# EAGLE library part MC60 (library 1zac)
Quectel MC60: Dual Sim+ GNSS + Bluetooth
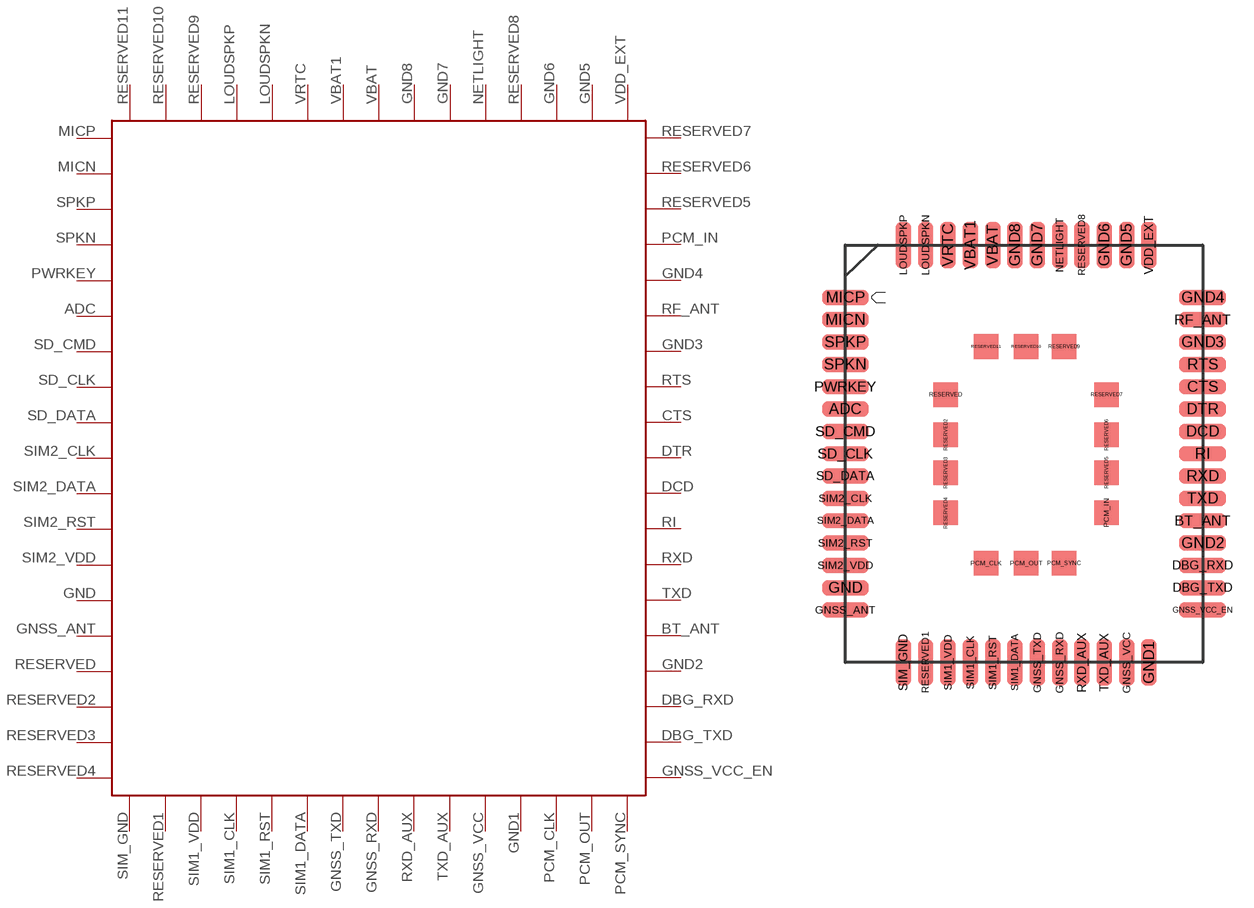
[diagram p7: symbol with the pads of MC60; footprint MC60]

Designator prefix -

## MC60 (MPN: Quectel MC60)  [MC60]
ADC  ADC
BT_ANT  BT_ANT
CTS  CTS
DBG_RXD  DBG_RXD
DBG_TXD  DBG_TXD
DCD  DCD
DTR  DTR
GND  GND
GND1  GND1
GND2  GND2
GND3  GND3
GND4  GND4
GND5  GND5
GND6  GND6
GND7  GND7
GND8  GND8
GNSS_ANT  GNSS_ANT
GNSS_RXD  GNSS_RXD
GNSS_TXD  GNSS_TXD
GNSS_VCC  GNSS_VCC
GNSS_VCC_EN  GNSS_VCC_EN
LOUDSPKN  LOUDSPKN
LOUDSPKP  LOUDSPKP
MICN  MICN
MICP  MICP
NETLIGHT  NETLIGHT
PCM_CLK  PCM_CLK
PCM_IN  PCM_IN
PCM_OUT  PCM_OUT
PCM_SYNC  PCM_SYNC
PWRKEY  PWRKEY
RESERVED  RESERVED
RESERVED1  RESERVED1
RESERVED2  RESERVED2
RESERVED3  RESERVED3
RESERVED4  RESERVED4
RESERVED5  RESERVED5
RESERVED6  RESERVED6
RESERVED7  RESERVED7
RESERVED8  RESERVED8
RESERVED9  RESERVED9
RESERVED10  RESERVED10
RESERVED11  RESERVED11
RF_ANT  RF_ANT
RI  RI
RTS  RTS
RXD  RXD
RXD_AUX  RXD_AUX
SD_CLK  SD_CLK
SD_CMD  SD_CMD
SD_DATA  SD_DATA
SIM1_CLK  SIM1_CLK
SIM1_DATA  SIM1_DATA
SIM1_RST  SIM1_RST
SIM1_VDD  SIM1_VDD
SIM2_CLK  SIM2_CLK
SIM2_DATA  SIM2_DATA
SIM2_RST  SIM2_RST
SIM2_VDD  SIM2_VDD
SIM_GND  SIM_GND
SPKN  SPKN
SPKP  SPKP
TXD  TXD
TXD_AUX  TXD_AUX
VBAT  VBAT
VBAT1  VBAT1
VDD_EXT  VDD_EXT
VRTC  VRTC

## Footprint MC60 (pad centres in mm)
smd 2.1 x 0.7: ADC -8,2.05; BT_ANT 8,-2.95; CTS 8,3.05; DBG_RXD 8,-4.95; DBG_TXD 8,-5.95; DCD 8,1.05; DTR 8,2.05; GND -8,-5.95; GND2 8,-3.95; GND3 8,5.05; GND4 8,7.05; GNSS_ANT -8,-6.95; GNSS_VCC_EN 8,-6.95; MICN -8,6.05; MICP -8,7.05; PWRKEY -8,3.05; RF_ANT 8,6.05; RI 8,0.05; RTS 8,4.05; RXD 8,-0.95; SD_CLK -8,0.05; SD_CMD -8,1.05; SD_DATA -8,-0.95; SIM2_CLK -8,-1.95; SIM2_DATA -8,-2.95; SIM2_RST -8,-3.95; SIM2_VDD -8,-4.95; SPKN -8,4.05; SPKP -8,5.05; TXD 8,-1.95
smd 0.7 x 2.1: GND1 5.6,-9.3; GND5 4.6,9.4; GND6 3.6,9.4; GND7 0.6,9.4; GND8 -0.4,9.4; GNSS_RXD 1.6,-9.3; GNSS_TXD 0.6,-9.3; GNSS_VCC 4.6,-9.3; LOUDSPKN -4.4,9.4; LOUDSPKP -5.4,9.4; NETLIGHT 1.6,9.4; RESERVED1 -4.4,-9.3; RESERVED8 2.6,9.4; RXD_AUX 2.6,-9.3; SIM1_CLK -2.4,-9.3; SIM1_DATA -0.4,-9.3; SIM1_RST -1.4,-9.3; SIM1_VDD -3.4,-9.3; SIM_GND -5.4,-9.3; TXD_AUX 3.6,-9.3; VBAT -1.4,9.4; VBAT1 -2.4,9.4; VDD_EXT 5.6,9.4; VRTC -3.4,9.4
smd 1.1 x 1.1: PCM_CLK -1.7,-4.85; PCM_IN 3.7,-2.6; PCM_OUT 0.1,-4.85; PCM_SYNC 1.8,-4.85; RESERVED -3.5,2.7; RESERVED2 -3.5,0.9; RESERVED3 -3.5,-0.8; RESERVED4 -3.5,-2.6; RESERVED5 3.7,-0.8; RESERVED6 3.7,0.9; RESERVED7 3.7,2.7; RESERVED9 1.8,4.85; RESERVED10 0.1,4.85; RESERVED11 -1.7,4.85